# Altium footprint library PQFN65P330X332X105_HS-9N.PcbLib: 1 footprints
Each footprint in its own frame and in the unit in brackets; x right, y up, seen from the top. Pads: shape width x height; smd on the part's side, far side on the other; paste and mask are expansions set on the pad; w line width, h text height; cw(c..) or ccw(c..) is an arc to the next point about the centre after c.
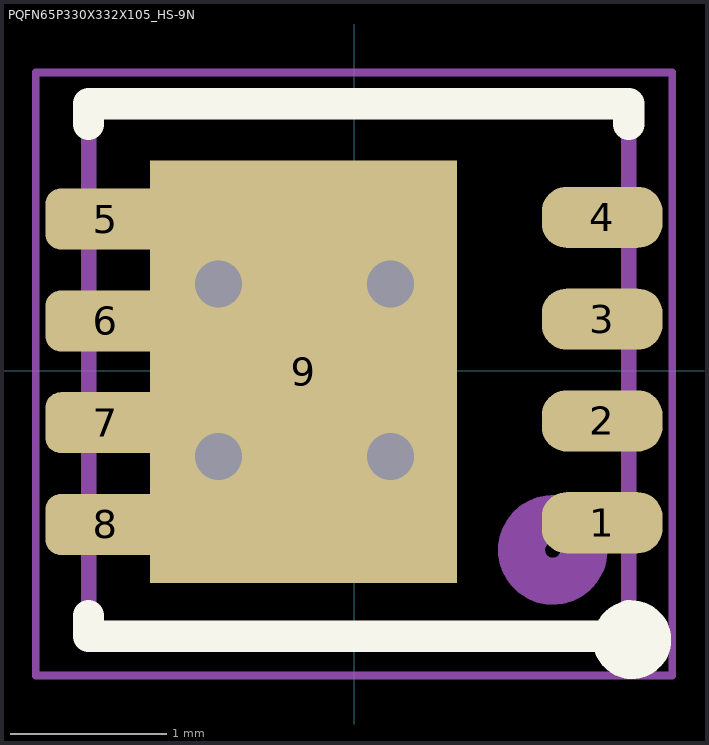
[diagram p0: the footprint, top view; thin cyan lines are the x and y axes]

## PQFN65P330X332X105_HS-9N [mm] "PQFN, 8-Leads, Body 3.30x3.33mm, Pitch 0.65mm, Thermal Pad 2.34x1.80mm, IPC Medium Density"
height 1.05
pads (9):
  rrect80% 0.77x0.39 smd mask+0.05: 1(1.585,-0.969) 2(1.585,-0.319) 3(1.585,0.331) 4(1.585,0.981)
  rrect50% 0.77x0.39 smd mask+0.05: 5(-1.585,0.97) 6(-1.585,0.32) 7(-1.585,-0.33) 8(-1.585,-0.98)
  rect 1.96x2.7 smd paste-3 mask+0.05: 9(-0.322,-0.005)
via 0.234,0.554 diameter 0.6 hole 0.3
via 0.234,-0.546 diameter 0.6 hole 0.3
via -0.866,0.554 diameter 0.6 hole 0.3
via -0.866,-0.546 diameter 0.6 hole 0.3
Top Overlay:
  circle w0.25: c1.776,-1.717 r0.125
  lines w0.2: -1.695,-1.564 -1.695,-1.694 ; -1.695,1.576 -1.695,1.706 -0.24,1.706 ; -1.687,1.706 1.755,1.706 1.755,1.576 ; -0.24,-1.694 -1.695,-1.694 ; 1.755,-1.564 1.755,-1.694 -1.695,-1.694
Top Paste:
  rectangle: -1.303,0.148 -0.823,1.346
  region: 0.658,1.345 0.178,1.345 0.178,0.147 0.658,0.147
  rectangle: -0.563,0.148 -0.082,1.346
  rectangle: -0.563,-1.356 -0.082,-0.158
  region: 0.658,-0.157 0.178,-0.157 0.178,-1.355 0.658,-1.355
  rectangle: -1.303,-1.356 -0.823,-0.158
Top Solder:
  pour cut-out: -0.455,1.56 -0.237,1.56 -0.237,-1.607 -0.456,-1.607 -0.456,1.561
Top Courtyard:
  lines w0.05: -2.032,-1.944 2.032,-1.944 2.032,1.905 -2.032,1.905 -2.032,-1.944
  lines w0.1: -0.47,0.006 0.53,0.006 ; 0.03,-0.494 0.03,0.506
Top Assembly:
  circle w0.3: c1.27,-1.143 r0.2
  lines w0.1: -1.695,-1.694 1.755,-1.694 1.755,1.706 -1.695,1.706 -1.695,-1.694
  text "'.Designator'" at -1.27,0.127 h0.2
3D body "User Library-TDFN-8-EP_3x3mm.step": height 1, standoff 0, extent -1.65,-1.674 1.71,1.686